# Altium footprint library DST-3-56.PcbLib: 1 footprints
Each footprint in its own frame and in the unit in brackets; x right, y up, seen from the top. Pads: shape width x height; smd on the part's side, far side on the other; paste and mask are expansions set on the pad; w line width, h text height; cw(c..) or ccw(c..) is an arc to the next point about the centre after c.
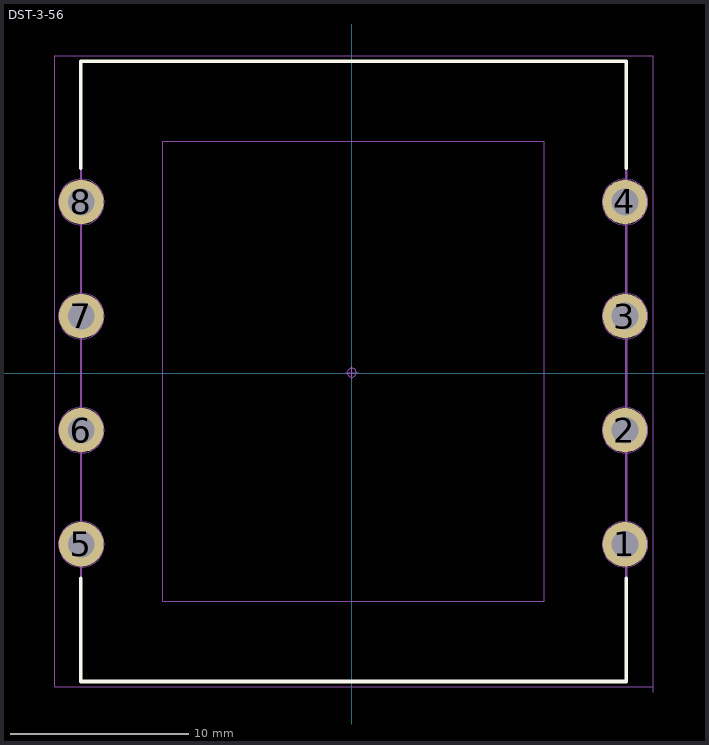
[diagram p0: the footprint, top view; thin cyan lines are the x and y axes]

## DST-3-56 [mm]
pads (8):
  round 2.5 hole 1.5: 1(15.325,-9.6) 2(15.325,-3.2) 3(15.325,3.2) 4(15.325,9.6) 5(-15.175,-9.6) 6(-15.175,-3.2) 7(-15.175,3.2) 8(-15.175,9.6)
Top Overlay:
  lines w0.2: -15.2,-11.5 -15.2,-17.3 15.4,-17.3 15.4,-11.5 ; -15.2,11.5 -15.2,17.5 15.4,17.5 15.4,11.5
Mechanical 3:
  lines w0.12: -15.2,1.2 -15.2,17.5 -6.3,17.5 15.4,17.5 15.4,-13.8 ; -15.2,2.3 -15.2,-6.6 -15.2,-17.3 15.4,-17.3 15.4,-11.2
Mechanical 5:
  circle w0.025: c-15.175,-9.6 r1.282
  circle w0.025: c-15.175,-3.2 r1.282
  circle w0.025: c-15.175,3.2 r1.282
  circle w0.025: c-15.175,9.6 r1.282
  circle w0.025: c15.325,9.6 r1.282
  circle w0.025: c15.325,3.2 r1.282
  circle w0.025: c15.325,-3.2 r1.282
  circle w0.025: c15.325,-9.6 r1.282
  lines w0.05: -15.2,-10.9 -15.2,-17.3 15.4,-17.3 15.4,-10.9 ; -15.2,-8.3 -15.2,-4.5 ; -15.2,-1.9 -15.2,1.9 ; -15.2,4.5 -15.2,8.3 ; -15.2,10.9 -15.2,17.5 15.4,17.5 15.4,10.9 ; -10.6,11.8 -10.6,13 10.8,13 10.8,-12.8 -10.6,-12.8 -10.6,12.5 ; 15.4,-8.3 15.4,-4.5 ; 15.4,-1.9 15.4,1.9 ; 15.4,4.5 15.4,8.3
Mechanical 7:
  circle w0.05: c0,0.025 r0.25
  lines w0.05: -0.35,0.025 0.35,0.025 ; 0,-0.325 0,0.375 ; -16.675,-17.6 16.925,-17.6 16.925,-17.9 16.925,17.8 -15.175,17.8 -16.675,17.8 -16.675,-17.6
Mechanical 9:
  text "'.Designator'" at -4.65,-2.379 h1
3D body "DST-3-56.stp": height 29.74, standoff -6.4, extent -15.175,-17.362 15.384,17.562